# EAGLE library part EXB-2HV104JV (library EXB-2HV104JV)
Resistor Networks & Arrays Resistor Array Chip 8 Elements 1506 Source: Datasheet <https://componentsearchengine.com/Datasheets/1/EXB-2HV104JV.pdf>
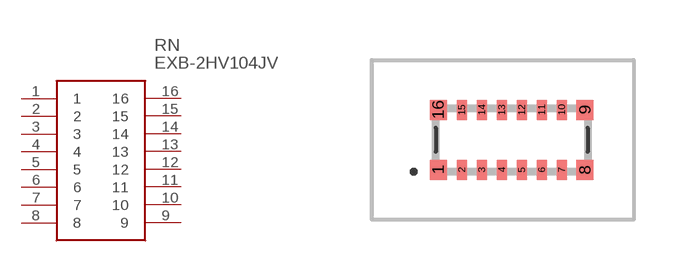
[diagram p0: symbol with the pads of EXB2HV104JV; footprint EXB2HV104JV]

Designator prefix RN

## EXB-2HV104JV (Description: Resistor Networks & Arrays Resistor Array Chip 8 Elements 1506; Height: 0.55mm; Manufacturer_Name: Panasonic; Manufacturer_Part_Number: EXB-2HV104JV; Mouser_Part_Number: 667-EXB-2HV104JV; Mouser_Price-Stock: https://www.mouser.co.uk/ProductDetail/Panasonic/EXB-2HV104JV?qs=9MgLB97nXf9MD%252BafCCtPcA%3D%3D)  [EXB2HV104JV]
1  1
2  2
3  3
4  4
5  5
6  6
7  7
8  8
9  9
10  10
11  11
12  12
13  13
14  14
15  15
16  16

## Footprint EXB2HV104JV (pad centres in mm)
EXB-2HV104JV-4
smd 0.425 x 0.5: 1 -1.837,-0.75; 8 1.837,-0.75; 9 1.837,0.75; 16 -1.837,0.75
smd 0.25 x 0.5: 2 -1.25,-0.75; 3 -0.75,-0.75; 4 -0.25,-0.75; 5 0.25,-0.75; 6 0.75,-0.75; 7 1.25,-0.75; 10 1.25,0.75; 11 0.75,0.75; 12 0.25,0.75; 13 -0.25,0.75; 14 -0.75,0.75; 15 -1.25,0.75